# EAGLE library part SI4713 (library Si4713)
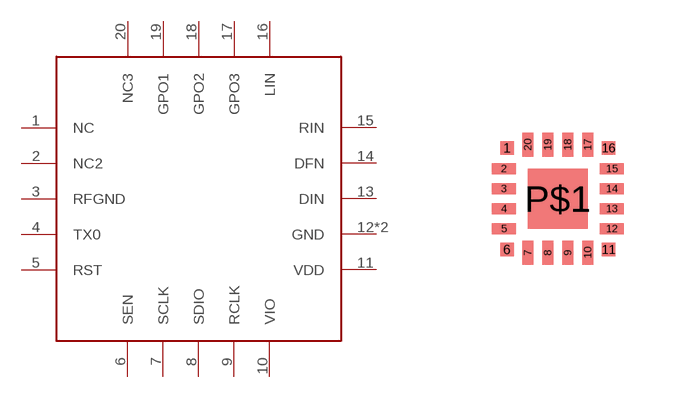
[diagram p0: symbol with the pads of QFN20-3X3; footprint QFN20-3X3]

Designator prefix -

## SI4713  [QFN20-3X3]
1  NC
2  NC2
3  RFGND
4  TX0
5  RST
6  SEN
7  SCLK
8  SDIO
9  RCLK
10  VIO
11  VDD
12  GND
13  DIN
14  DFN
15  RIN
16  LIN
17  GPO3
18  GPO2
19  GPO1
20  NC3
P$1  GND

## Footprint QFN20-3X3 (pad centres in mm)
smd 0.34 x 0.34: 1 -1.27,1.27; 6 -1.27,-1.27; 11 1.27,-1.27; 16 1.27,1.27
smd 0.61 x 0.28: 2 -1.35,0.75; 3 -1.35,0.25; 4 -1.35,-0.25; 5 -1.35,-0.75; 12 1.35,-0.75; 13 1.35,-0.25; 14 1.35,0.25; 15 1.35,0.75
smd 0.28 x 0.61: 7 -0.75,-1.35; 8 -0.25,-1.35; 9 0.25,-1.35; 10 0.75,-1.35; 17 0.75,1.35; 18 0.25,1.35; 19 -0.25,1.35; 20 -0.75,1.35
smd 1.5 x 1.5: P$1 0,0